# EAGLE library part 1X07 (library Jordi)
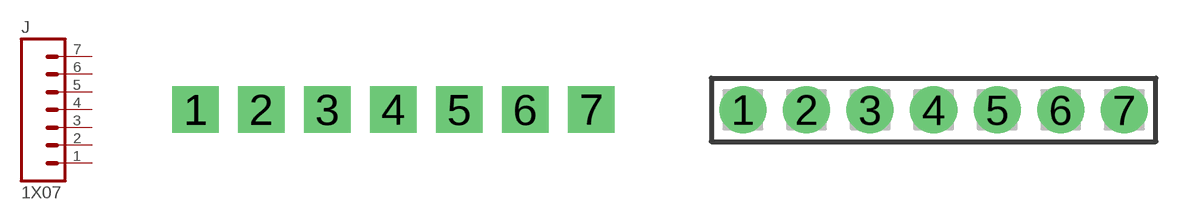
[diagram p34: symbol with the pads of CASTELLATION-07-0.1; footprints CASTELLATION-07-0.1, F-1X07-0.1-PTH]

Designator prefix J

## 1X07CAS-0.1  [CASTELLATION-07-0.1]
1  1  pas
2  2  pas
3  3  pas
4  4  pas
5  5  pas
6  6  pas
7  7  pas

## 1X07F-0.1-PTH  [F-1X07-0.1-PTH]
Pads as for CASTELLATION-07-0.1

## 1X07M-0.1-PTH  [M-1X07-0.1-PTH]
Pads as for CASTELLATION-07-0.1

## Footprint CASTELLATION-07-0.1 (pad centres in mm)
drill 1.016 pad 1.778 square: 1 -7.62,0; 2 -5.08,0; 3 -2.54,0; 4 0,0; 5 2.54,0; 6 5.08,0; 7 7.62,0

## Footprint F-1X07-0.1-PTH (pad centres in mm)
drill 1.016 pad 1.88: 1 -7.62,0; 2 -5.08,0; 3 -2.54,0; 4 0,0; 5 2.54,0; 6 5.08,0; 7 7.62,0

## Footprint M-1X07-0.1-PTH (pad centres in mm)
drill 1.016 pad 1.88: 1 -7.62,0; 2 -5.08,0; 3 -2.54,0; 4 0,0; 5 2.54,0; 6 5.08,0; 7 7.62,0